# EAGLE library part JD-T18003-T01 (library X893)
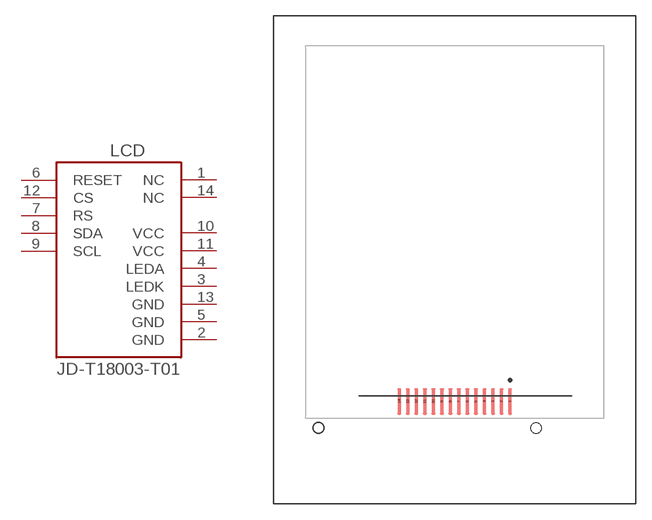
[diagram p142: symbol with the pads of JD-T18003-T01; footprint JD-T18003-T01]

Designator prefix LCD

## JD-T18003-T01  [JD-T18003-T01]
1  NC  nc
2  GND  pwr
3  LEDK  pas
4  LEDA  pas
5  GND  pwr
6  RESET  in
7  RS  in
8  SDA  oc
9  SCL  in
10  VCC  pwr
11  VCC  pwr
12  CS  in
13  GND  pwr
14  NC  nc

## Footprint JD-T18003-T01 (pad centres in mm)
smd 0.4 x 2.5: 1 5.2,-1.4; 2 4.4,-1.4; 3 3.6,-1.4; 4 2.8,-1.4; 5 2,-1.4; 6 1.2,-1.4; 7 0.4,-1.4; 8 -0.4,-1.4; 9 -1.2,-1.4; 10 -2,-1.4; 11 -2.8,-1.4; 12 -3.6,-1.4; 13 -4.4,-1.4; 14 -5.2,-1.4
hole 1 at 7.65,-3.9